# Altium schematic symbol library Transformer.SchLib: 117 symbols
Pins are listed as number, name and electrical type; pins without a type are passive.

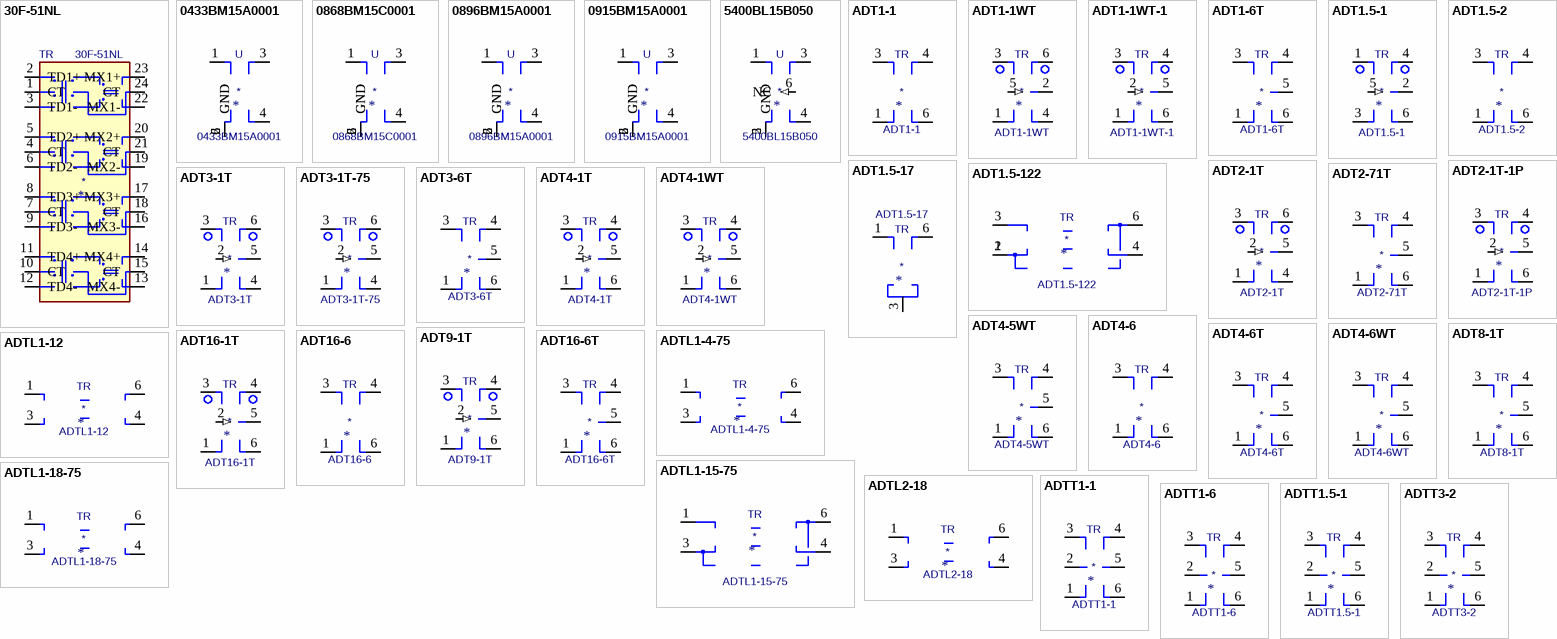
[diagram p0: symbols 30F-51NL to ADTT3-2]

## 30F-51NL
designator *  value 30F-51NL  Reference: TR
1CT:1CT 10/100/1000 Base-T Ethernet Transformer, SMD-24; ki_keywords: gigabit RJ45 transformer ethernet lan; ki_fp_filters: Transformer*Ethernet*YDS*30F?51NL*; Footprint: Transformer_SMD:Transformer_Ethernet_YDS_30F-51NL_SO-24_7.1x15.1mm; Datasheet: https://datasheet.lcsc.com/lcsc/1811051610_Shanghai-YDS-Tech-30F-51NL_C123168.pdf; Description_: 1CT:1CT 10/100/1000 Base-T Ethernet Transformer, SMD-24
pins: 1 CT, 2 TD1+, 3 TD1-, 4 CT, 5 TD2+, 6 TD2-, 7 CT, 8 TD3+, 9 TD3-, 10 CT, 11 TD4+, 12 TD4-, 13 MX4-, 14 MX4+, 15 CT, 16 MX3-, 17 MX3+, 18 CT, 19 MX2-, 20 MX2+, 21 CT, 22 MX1-, 23 MX1+, 24 CT

## 0433BM15A0001
designator *  value 0433BM15A0001  Reference: U
430-435MHz 1:1 RF Transformer, Unbalanced to Balanced, with integrated DC blocking capacitor; ki_keywords: balun rf transformer; ki_fp_filters: Balun*Johanson*0896BM15A0001*; Footprint: RF_Converter:Balun_Johanson_0896BM15A0001; Datasheet: https://www.johansontechnology.com/datasheets/0433BM15A0001/0433BM15A0001.pdf; Description_: 430-435MHz 1:1 RF Transformer, Unbalanced to Balanced, with integrated DC blocking capacitor
pins: 1, 2 GND (power), 3, 4, 5 GND, 6 GND

## 0868BM15C0001
designator *  value 0868BM15C0001  Reference: U
863-873MHz 1:1 RF Transformer, Unbalanced to Balanced, with integrated DC blocking capacitor; ki_keywords: balun rf transformer; ki_fp_filters: Balun*Johanson*0896BM15A0001*; Footprint: RF_Converter:Balun_Johanson_0896BM15A0001; Datasheet: https://www.johansontechnology.com/datasheets/0868BM15C0001/0868BM15C0001.pdf; Description_: 863-873MHz 1:1 RF Transformer, Unbalanced to Balanced, with integrated DC blocking capacitor
pins: 1, 2 GND (power), 3, 4, 5 GND, 6 GND

## 0896BM15A0001
designator *  value 0896BM15A0001  Reference: U
863-928MHz 1:1 RF Transformer, Unbalanced to Balanced; ki_keywords: balun rf transformer; ki_fp_filters: Balun*Johanson*0896BM15A0001*; Footprint: RF_Converter:Balun_Johanson_0896BM15A0001; Datasheet: https://www.johansontechnology.com/datasheets/0896BM15A0001/0896BM15A0001.pdf; Description_: 863-928MHz 1:1 RF Transformer, Unbalanced to Balanced
pins: 1, 2 GND (power), 3, 4, 5 GND, 6 GND

## 0915BM15A0001
designator *  value 0915BM15A0001  Reference: U
902-928MHz 1:1 RF Transformer, Unbalanced to Balanced, with integrated DC blocking capacitor; ki_keywords: balun rf transformer; ki_fp_filters: Balun*Johanson*0896BM15A0001*; Footprint: RF_Converter:Balun_Johanson_0896BM15A0001; Datasheet: https://www.johansontechnology.com/datasheets/0915BM15A0001/0915BM15A0001.pdf; Description_: 902-928MHz 1:1 RF Transformer, Unbalanced to Balanced, with integrated DC blocking capacitor
pins: 1, 2 GND (power), 3, 4, 5 GND, 6 GND

## 5400BL15B050
designator *  value 5400BL15B050  Reference: U
4.9-5.9GHz 1:1 RF Transformer, Unbalanced to Balanced; ki_keywords: balun rf transformer; ki_fp_filters: Balun*Johanson*5400BL15B050E*; Footprint: RF_Converter:Balun_Johanson_5400BL15B050E; Datasheet: https://www.johansontechnology.com/datasheets/5400BL15B050/5400BL15B050.pdf; Description_: 4.9-5.9GHz 1:1 RF Transformer, Unbalanced to Balanced
pins: 1, 2 GND (power), 3, 4, 5 GND, 6 NC (in)

## ADT1-1
designator *  value ADT1-1  Reference: TR
0.15-400MHz 1:1 RF Transformer, Balanced to Balanced, CD542; ki_keywords: Mini-Circuits RF Transformer; ki_fp_filters: Mini?Circuits*CD542*; Footprint: RF_Mini-Circuits:Mini-Circuits_CD542_H2.84mm; Datasheet: https://www.minicircuits.com/pdfs/ADT1-1+.pdf; Description_: 0.15-400MHz 1:1 RF Transformer, Balanced to Balanced, CD542
pins: 1, 3, 4, 6

## ADT1-1WT
designator *  value ADT1-1WT  Reference: TR
0.005-125MHz 1:1 RF Transformer, Unbalanced to Balanced Center Tap, CD542; ki_keywords: Mini-Circuits RF Transformer; ki_fp_filters: Mini?Circuits*CD542*; Footprint: RF_Mini-Circuits:Mini-Circuits_CD542_H2.84mm; Datasheet: https://www.minicircuits.com/pdfs/ADT1-1WT.pdf; Description_: 0.005-125MHz 1:1 RF Transformer, Unbalanced to Balanced Center Tap, CD542
pins: 1, 2, 3, 4, 5 (in), 6

## ADT1-1WT-1
designator *  value ADT1-1WT-1  Reference: TR
1-400MHz 1:1 RF Transformer, Unbalanced to Balanced Center Tap, CD542; ki_keywords: Mini-Circuits RF Transformer; ki_fp_filters: Mini?Circuits*CD542*; Footprint: RF_Mini-Circuits:Mini-Circuits_CD542_H2.84mm; Datasheet: https://www.minicircuits.com/pdfs/ADT1-1WT-1+.pdf; Description_: 1-400MHz 1:1 RF Transformer, Unbalanced to Balanced Center Tap, CD542
pins: 1, 2 (in), 3, 4, 5, 6

## ADT1-6T
designator *  value ADT1-6T  Reference: TR
0.06-160MHz 1:1 RF Transformer, Unbalanced to Balanced Center Tap, CD542; ki_keywords: Mini-Circuits RF Transformer; ki_fp_filters: Mini?Circuits*CD637*; Footprint: RF_Mini-Circuits:Mini-Circuits_CD637_H5.23mm; Datasheet: https://www.minicircuits.com/pdfs/ADT1-6T+.pdf; Description_: 0.06-160MHz 1:1 RF Transformer, Unbalanced to Balanced Center Tap, CD542
pins: 1, 3, 4, 5, 6

## ADT1.5-1
designator *  value ADT1.5-1  Reference: TR
0.5-650MHz 1:1.5 RF Transformer, Unbalanced to Balanced Center Tap, CD542; ki_keywords: Mini-Circuits RF Transformer; ki_fp_filters: Mini?Circuits*CD542*; Footprint: RF_Mini-Circuits:Mini-Circuits_CD542_H2.84mm; Datasheet: https://www.minicircuits.com/pdfs/ADT1.5-1+.pdf; Description_: 0.5-650MHz 1:1.5 RF Transformer, Unbalanced to Balanced Center Tap, CD542
pins: 1, 2, 3, 4, 5 (in), 6

## ADT1.5-2
designator *  value ADT1.5-2  Reference: TR
0.3-225MHz 1:1.5 RF Transformer, Balanced to Balanced, CD636; ki_keywords: Mini-Circuits RF Transformer; ki_fp_filters: Mini?Circuits*CD636*; Footprint: RF_Mini-Circuits:Mini-Circuits_CD636_H4.11mm; Datasheet: https://www.minicircuits.com/pdfs/ADT1.5-2+.pdf; Description_: 0.3-225MHz 1:1.5 RF Transformer, Balanced to Balanced, CD636
pins: 1, 3, 4, 6

## ADT1.5-17
designator *  value ADT1.5-17  Reference: TR
0.5-1700MHz 1:1.5 RF Transformer, Unbalanced to Unbalanced, CD542; ki_keywords: Mini-Circuits RF Transformer; ki_fp_filters: Mini?Circuits*CD542*; Footprint: RF_Mini-Circuits:Mini-Circuits_CD542_H2.84mm; Datasheet: https://www.minicircuits.com/pdfs/ADT1.5-17+.pdf; Description_: 0.5-1700MHz 1:1.5 RF Transformer, Unbalanced to Unbalanced, CD542
pins: 1, 3, 6

## ADT1.5-122
designator *  value ADT1.5-122  Reference: TR
20-1200MHz 1:1.5 RF Transformer, Balanced Transmission Line, CD542; ki_keywords: Mini-Circuits RF Transformer; ki_fp_filters: Mini?Circuits*CD542*; Footprint: RF_Mini-Circuits:Mini-Circuits_CD542_H2.84mm; Datasheet: https://www.minicircuits.com/pdfs/ADT1.5-122+.pdf; Description_: 20-1200MHz 1:1.5 RF Transformer, Balanced Transmission Line, CD542
pins: 1, 2, 3, 4, 6

## ADT2-1T
designator *  value ADT2-1T  Reference: TR
0.40-450MHz 1:2 RF Transformer, Unbalanced to Balanced Center Tap, CD542; ki_keywords: Mini-Circuits RF Transformer; ki_fp_filters: Mini?Circuits*CD542*; Footprint: RF_Mini-Circuits:Mini-Circuits_CD542_H2.84mm; Datasheet: https://www.minicircuits.com/pdfs/ADT2-1T+.pdf; Description_: 0.40-450MHz 1:2 RF Transformer, Unbalanced to Balanced Center Tap, CD542
pins: 1, 2 (in), 3, 4, 5, 6

## ADT2-1T-1P
designator *  value ADT2-1T-1P  Reference: TR
8-600MHz 1:2 RF Transformer, Unbalanced to Balanced Center Tap, CD542; ki_keywords: Mini-Circuits RF Transformer; ki_fp_filters: Mini?Circuits*CD542*; Footprint: RF_Mini-Circuits:Mini-Circuits_CD542_H2.84mm; Datasheet: https://www.minicircuits.com/pdfs/ADT2-1T-1P+.pdf; Description_: 8-600MHz 1:2 RF Transformer, Unbalanced to Balanced Center Tap, CD542
pins: 1, 2 (in), 3, 4, 5, 6

## ADT2-71T
designator *  value ADT2-71T  Reference: TR
0.40-500MHz 1:2 RF Transformer, Unbalanced to Balanced Center Tap, CD542; ki_keywords: Mini-Circuits RF Transformer; ki_fp_filters: Mini?Circuits*CD637*; Footprint: RF_Mini-Circuits:Mini-Circuits_CD637_H5.23mm; Datasheet: https://www.minicircuits.com/pdfs/ADT2-71T+.pdf; Description_: 0.40-500MHz 1:2 RF Transformer, Unbalanced to Balanced Center Tap, CD542
pins: 1, 3, 4, 5, 6

## ADT3-1T
designator *  value ADT3-1T  Reference: TR
1-500MHz 1:3 RF Transformer, Unbalanced to Balanced Center Tap, CD542; ki_keywords: Mini-Circuits RF Transformer; ki_fp_filters: Mini?Circuits*CD542*; Footprint: RF_Mini-Circuits:Mini-Circuits_CD542_H2.84mm; Datasheet: https://www.minicircuits.com/pdfs/ADT3-1T+.pdf; Description_: 1-500MHz 1:3 RF Transformer, Unbalanced to Balanced Center Tap, CD542
pins: 1, 2 (in), 3, 4, 5, 6

## ADT3-1T-75
designator *  value ADT3-1T-75  Reference: TR
1-500MHz 1:3 RF Transformer, Unbalanced to Balanced Center Tap, CD542; ki_keywords: Mini-Circuits RF Transformer; ki_fp_filters: Mini?Circuits*CD542*; Footprint: RF_Mini-Circuits:Mini-Circuits_CD542_H2.84mm; Datasheet: https://www.minicircuits.com/pdfs/ADT3-1T-75+.pdf; Description_: 1-500MHz 1:3 RF Transformer, Unbalanced to Balanced Center Tap, CD542
pins: 1, 2 (in), 3, 4, 5, 6

## ADT3-6T
designator *  value ADT3-6T  Reference: TR
1-600MHz 1:3 RF Transformer, Unbalanced to Balanced Center Tap, CD636; ki_keywords: Mini-Circuits RF Transformer; ki_fp_filters: Mini?Circuits*CD636*; Footprint: RF_Mini-Circuits:Mini-Circuits_CD636_H4.11mm; Datasheet: https://www.minicircuits.com/pdfs/ADT3-6T+.pdf; Description_: 1-600MHz 1:3 RF Transformer, Unbalanced to Balanced Center Tap, CD636
pins: 1, 3, 4, 5, 6

## ADT4-1T
designator *  value ADT4-1T  Reference: TR
9-625MHz 1:4 RF Transformer, Unbalanced to Balanced Center Tap, CD542; ki_keywords: Mini-Circuits RF Transformer; ki_fp_filters: Mini?Circuits*CD542*; Footprint: RF_Mini-Circuits:Mini-Circuits_CD542_H2.84mm; Datasheet: https://www.minicircuits.com/pdfs/ADT4-1T+.pdf; Description_: 9-625MHz 1:4 RF Transformer, Unbalanced to Balanced Center Tap, CD542
pins: 1, 2 (in), 3, 4, 5, 6

## ADT4-1WT
designator *  value ADT4-1WT  Reference: TR
2-775MHz 1:4 RF Transformer, Unbalanced to Balanced Center Tap, CD542; ki_keywords: Mini-Circuits RF Transformer; ki_fp_filters: Mini?Circuits*CD542*; Footprint: RF_Mini-Circuits:Mini-Circuits_CD542_H2.84mm; Datasheet: https://www.minicircuits.com/pdfs/ADT4-1WT+.pdf; Description_: 2-775MHz 1:4 RF Transformer, Unbalanced to Balanced Center Tap, CD542
pins: 1, 2 (in), 3, 4, 5, 6

## ADT4-5WT
designator *  value ADT4-5WT  Reference: TR
1-650MHz 1:4 RF Transformer, Unbalanced to Balanced Center Tap, CD637; ki_keywords: Mini-Circuits RF Transformer; ki_fp_filters: Mini?Circuits*CD637*; Footprint: RF_Mini-Circuits:Mini-Circuits_CD637_H5.23mm; Datasheet: https://www.minicircuits.com/pdfs/ADT4-5WT+.pdf; Description_: 1-650MHz 1:4 RF Transformer, Unbalanced to Balanced Center Tap, CD637
pins: 1, 3, 4, 5, 6

## ADT4-6
designator *  value ADT4-6  Reference: TR
0.07-250MHz 1:4 RF Transformer, Balanced to Balanced, CD542; ki_keywords: Mini-Circuits RF Transformer; ki_fp_filters: Mini?Circuits*CD637*; Footprint: RF_Mini-Circuits:Mini-Circuits_CD637_H5.23mm; Datasheet: https://www.minicircuits.com/pdfs/ADT4-6+.pdf; Description_: 0.07-250MHz 1:4 RF Transformer, Balanced to Balanced, CD542
pins: 1, 3, 4, 6

## ADT4-6T
designator *  value ADT4-6T  Reference: TR
1.5-70MHz 1:4 RF Transformer, Unbalanced to Balanced Center Tap, CD637; ki_keywords: Mini-Circuits RF Transformer; ki_fp_filters: Mini?Circuits*CD637*; Footprint: RF_Mini-Circuits:Mini-Circuits_CD637_H5.23mm; Datasheet: https://www.minicircuits.com/pdfs/ADT4-6T+.pdf; Description_: 1.5-70MHz 1:4 RF Transformer, Unbalanced to Balanced Center Tap, CD637
pins: 1, 3, 4, 5, 6

## ADT4-6WT
designator *  value ADT4-6WT  Reference: TR
2-70MHz 1:4 RF Transformer, Unbalanced to Balanced Center Tap, CD637; ki_keywords: Mini-Circuits RF Transformer; ki_fp_filters: Mini?Circuits*CD636*; Footprint: RF_Mini-Circuits:Mini-Circuits_CD636_H4.11mm; Datasheet: https://www.minicircuits.com/pdfs/ADT4-6WT+.pdf; Description_: 2-70MHz 1:4 RF Transformer, Unbalanced to Balanced Center Tap, CD637
pins: 1, 3, 4, 5, 6

## ADT8-1T
designator *  value ADT8-1T  Reference: TR
8-775MHz 1:8 RF Transformer, Unbalanced to Balanced Center Tap, CD637; ki_keywords: Mini-Circuits RF Transformer; ki_fp_filters: Mini?Circuits*CD637*; Footprint: RF_Mini-Circuits:Mini-Circuits_CD637_H5.23mm; Datasheet: https://www.minicircuits.com/pdfs/ADT8-1T+.pdf; Description_: 8-775MHz 1:8 RF Transformer, Unbalanced to Balanced Center Tap, CD637
pins: 1, 3, 4, 5, 6

## ADT9-1T
designator *  value ADT9-1T  Reference: TR
1-250MHz 1:9 RF Transformer, Unbalanced to Balanced Center Tap, CD542; ki_keywords: Mini-Circuits RF Transformer; ki_fp_filters: Mini?Circuits*CD542*; Footprint: RF_Mini-Circuits:Mini-Circuits_CD542_H2.84mm; Datasheet: https://www.minicircuits.com/pdfs/ADT9-1T+.pdf; Description_: 1-250MHz 1:9 RF Transformer, Unbalanced to Balanced Center Tap, CD542
pins: 1, 2 (in), 3, 4, 5, 6

## ADT16-1T
designator *  value ADT16-1T  Reference: TR
1.5-160MHz 1:16 RF Transformer, Unbalanced to Balanced Center Tap, CD542; ki_keywords: Mini-Circuits RF Transformer; ki_fp_filters: Mini?Circuits*CD542*; Footprint: RF_Mini-Circuits:Mini-Circuits_CD542_H2.84mm; Datasheet: https://www.minicircuits.com/pdfs/ADT16-1T+.pdf; Description_: 1.5-160MHz 1:16 RF Transformer, Unbalanced to Balanced Center Tap, CD542
pins: 1, 2 (in), 3, 4, 5, 6

## ADT16-6
designator *  value ADT16-6  Reference: TR
0.25-105MHz 1:16 RF Transformer, Balanced to Balanced, CD636; ki_keywords: Mini-Circuits RF Transformer; ki_fp_filters: Mini?Circuits*CD636*; Footprint: RF_Mini-Circuits:Mini-Circuits_CD636_H4.11mm; Datasheet: https://www.minicircuits.com/pdfs/ADT16-6+.pdf; Description_: 0.25-105MHz 1:16 RF Transformer, Balanced to Balanced, CD636
pins: 1, 3, 4, 6

## ADT16-6T
designator *  value ADT16-6T  Reference: TR
0.10-400MHz 1:16 RF Transformer, Unbalanced to Balanced Center Tap, CD542; ki_keywords: Mini-Circuits RF Transformer; ki_fp_filters: Mini?Circuits*CD637*; Footprint: RF_Mini-Circuits:Mini-Circuits_CD637_H5.23mm; Datasheet: https://www.minicircuits.com/pdfs/ADT16-6T+.pdf; Description_: 0.10-400MHz 1:16 RF Transformer, Unbalanced to Balanced Center Tap, CD542
pins: 1, 3, 4, 5, 6

## ADTL1-4-75
designator *  value ADTL1-4-75  Reference: TR
0.5-1000MHz 1:1 RF Transformer, Balanced Transmission Line, CD542; ki_keywords: Mini-Circuits RF Transformer; ki_fp_filters: Mini?Circuits*CD542*; Footprint: RF_Mini-Circuits:Mini-Circuits_CD542_H2.84mm; Datasheet: https://www.minicircuits.com/pdfs/ADTL1-4-75+.pdf; Description_: 0.5-1000MHz 1:1 RF Transformer, Balanced Transmission Line, CD542
pins: 1, 3, 4, 6

## ADTL1-12
designator *  value ADTL1-12  Reference: TR
20-1200MHz 1:1 RF Transformer, Balanced Transmission Line, CD542; ki_keywords: Mini-Circuits RF Transformer; ki_fp_filters: Mini?Circuits*CD542*; Footprint: RF_Mini-Circuits:Mini-Circuits_CD542_H2.84mm; Datasheet: https://www.minicircuits.com/pdfs/ADTL1-12+.pdf; Description_: 20-1200MHz 1:1 RF Transformer, Balanced Transmission Line, CD542
pins: 1, 3, 4, 6

## ADTL1-15-75
designator *  value ADTL1-15-75  Reference: TR
10-1500MHz 1:1 RF Transformer, Balanced Transmission Line, CD542; ki_keywords: Mini-Circuits RF Transformer; ki_fp_filters: Mini?Circuits*CD542*; Footprint: RF_Mini-Circuits:Mini-Circuits_CD542_H2.84mm; Datasheet: https://www.minicircuits.com/pdfs/ADTL1-15-75+.pdf; Description_: 10-1500MHz 1:1 RF Transformer, Balanced Transmission Line, CD542
pins: 1, 3, 4, 6

## ADTL1-18-75
designator *  value ADTL1-18-75  Reference: TR
5-1800MHz 1:1 RF Transformer, Balanced Transmission Line, CD542; ki_keywords: Mini-Circuits RF Transformer; ki_fp_filters: Mini?Circuits*CD542*; Footprint: RF_Mini-Circuits:Mini-Circuits_CD542_H2.84mm; Datasheet: https://www.minicircuits.com/pdfs/ADTL1-18-75+.pdf; Description_: 5-1800MHz 1:1 RF Transformer, Balanced Transmission Line, CD542
pins: 1, 3, 4, 6

## ADTL2-18
designator *  value ADTL2-18  Reference: TR
30-1800MHz 1:2 RF Transformer, Balanced Transmission Line, CD542; ki_keywords: Mini-Circuits RF Transformer; ki_fp_filters: Mini?Circuits*CD542*; Footprint: RF_Mini-Circuits:Mini-Circuits_CD542_H2.84mm; Datasheet: https://www.minicircuits.com/pdfs/ADTL2-18+.pdf; Description_: 30-1800MHz 1:2 RF Transformer, Balanced Transmission Line, CD542
pins: 1, 3, 4, 6

## ADTT1-1
designator *  value ADTT1-1  Reference: TR
0.3-300MHz 1:1 RF Transformer, Unbalanced to Balanced Center Tap at Primary/Secondary, CD542; ki_keywords: Mini-Circuits RF Transformer; ki_fp_filters: Mini?Circuits*CD542*; Footprint: RF_Mini-Circuits:Mini-Circuits_CD542_H2.84mm; Datasheet: https://www.minicircuits.com/pdfs/ADTT1-1+.pdf; Description_: 0.3-300MHz 1:1 RF Transformer, Unbalanced to Balanced Center Tap at Primary/Secondary, CD542
pins: 1, 2, 3, 4, 5, 6

## ADTT1-6
designator *  value ADTT1-6  Reference: TR
0.015-100MHz 1:1 RF Transformer, Unbalanced to Balanced Center Tap at Primary/Secondary, CD637; ki_keywords: Mini-Circuits RF Transformer; ki_fp_filters: Mini?Circuits*CD637*; Footprint: RF_Mini-Circuits:Mini-Circuits_CD637_H5.23mm; Datasheet: https://www.minicircuits.com/pdfs/ADTT1-6+.pdf; Description_: 0.015-100MHz 1:1 RF Transformer, Unbalanced to Balanced Center Tap at Primary/Secondary, CD637
pins: 1, 2, 3, 4, 5, 6

## ADTT1.5-1
designator *  value ADTT1.5-1  Reference: TR
0.25-300MHz 1:1.5 RF Transformer, Unbalanced to Balanced Center Tap at Primary/Secondary, CD636; ki_keywords: Mini-Circuits RF Transformer; ki_fp_filters: Mini?Circuits*CD636*; Footprint: RF_Mini-Circuits:Mini-Circuits_CD636_H4.11mm; Datasheet: https://www.minicircuits.com/pdfs/ADTT1.5-1+.pdf; Description_: 0.25-300MHz 1:1.5 RF Transformer, Unbalanced to Balanced Center Tap at Primary/Secondary, CD636
pins: 1, 2, 3, 4, 5, 6

## ADTT3-2
designator *  value ADTT3-2  Reference: TR
0.2-210MHz 1:3 RF Transformer, Unbalanced to Balanced Center Tap at Primary/Secondary, CD636; ki_keywords: Mini-Circuits RF Transformer; ki_fp_filters: Mini?Circuits*CD636*; Footprint: RF_Mini-Circuits:Mini-Circuits_CD636_H4.11mm; Datasheet: https://www.minicircuits.com/pdfs/ADTT3-2+.pdf; Description_: 0.2-210MHz 1:3 RF Transformer, Unbalanced to Balanced Center Tap at Primary/Secondary, CD636
pins: 1, 2, 3, 4, 5, 6

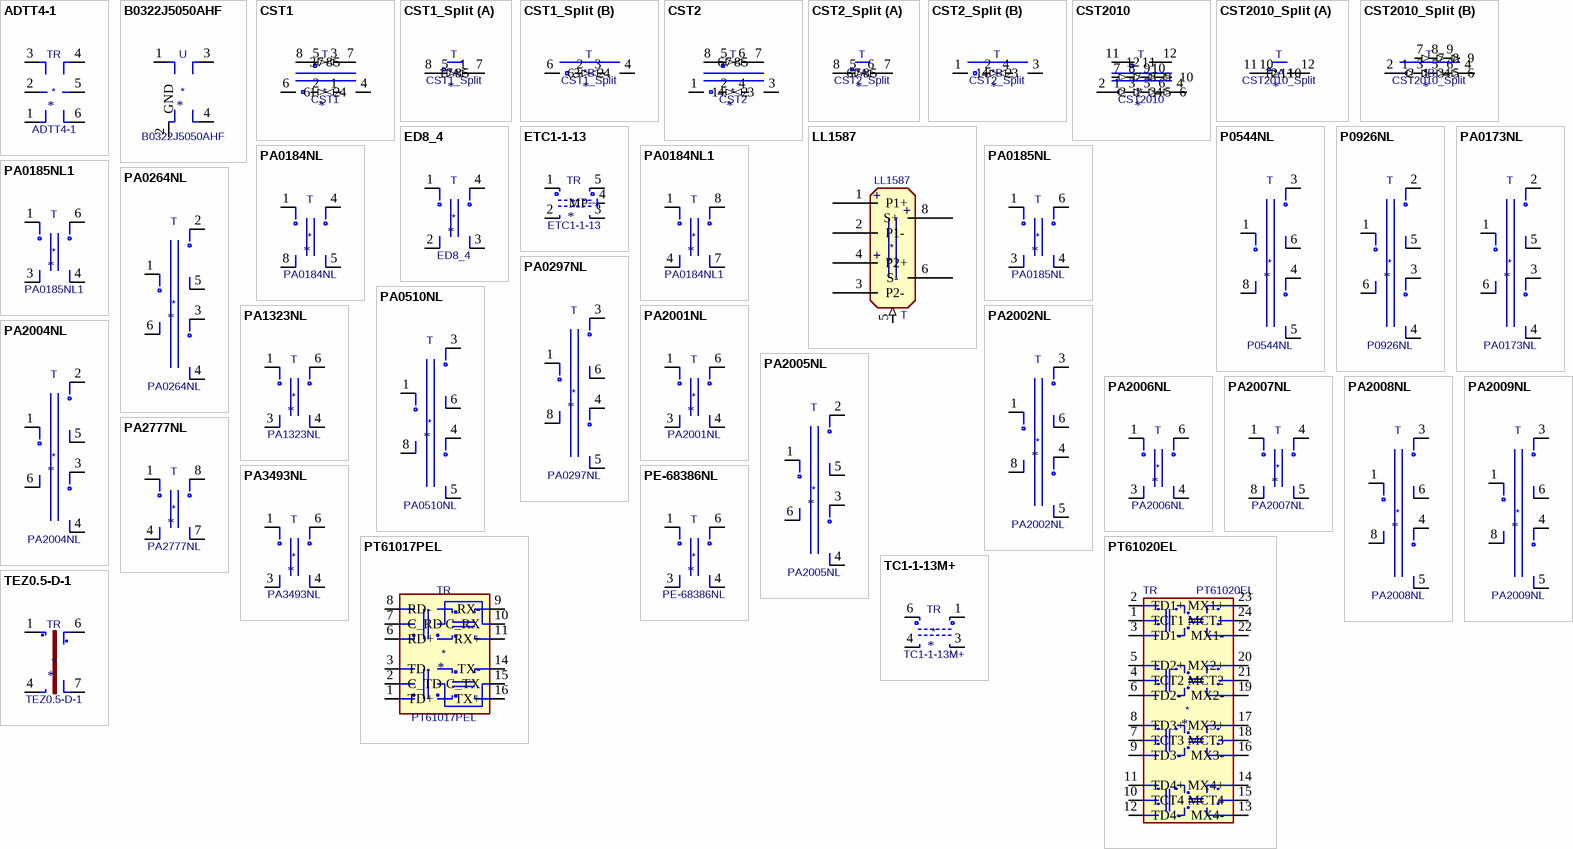
[diagram p1: symbols ADTT4-1 to TEZ0.5-D-1]

## ADTT4-1
designator *  value ADTT4-1  Reference: TR
0.2-120MHz 1:4 RF Transformer, Unbalanced to Balanced Center Tap at Primary/Secondary, CD636; ki_keywords: Mini-Circuits RF Transformer; ki_fp_filters: Mini?Circuits*CD636*; Footprint: RF_Mini-Circuits:Mini-Circuits_CD636_H4.11mm; Datasheet: https://www.minicircuits.com/pdfs/ADTT4-1+.pdf; Description_: 0.2-120MHz 1:4 RF Transformer, Unbalanced to Balanced Center Tap at Primary/Secondary, CD636
pins: 1, 2, 3, 4, 5, 6

## B0322J5050AHF
designator *  value B0322J5050AHF  Reference: U
300MHz to 2200MHz 1:1 RF Transformer, 50 ohm, Unbalanced to Balanced; ki_keywords: balun rf transformer; ki_fp_filters: Anaren*0805*2012Metric*; Footprint: RF_Converter:Anaren_0805_2012Metric-6; Datasheet: https://cdn.ttm.com/repository/products/wireless-xinger/balun-transformers/B0322J5050AHF/B0322J5050AHF.pdf; Description_: 300MHz to 2200MHz 1:1 RF Transformer, 50 ohm, Unbalanced to Balanced
pins: 1, 2 GND (power), 3, 4

## CST1
designator *  value CST1  Reference: T
Coilcraft Current Sense Transformer, SMD, 20A, 1:20 to 1:125; ki_fp_filters: Transformer*Coilcraft*CST1*; Footprint: Transformer_SMD:Transformer_Coilcraft_CST1; Datasheet: https://www.coilcraft.com/pdfs/cst.pdf; Description_: Coilcraft Current Sense Transformer, SMD, 20A, 1:20 to 1:125; ki_keywords: current sense transformer
pins: 1 (in), 2 (in), 3 (in), 4, 5 (in), 6, 7, 8

## CST1_Split
designator *  value CST1_Split  Reference: T
Coilcraft Current Sense Transformer, SMD, 20A, 1:20 to 1:125; ki_fp_filters: Transformer*Coilcraft*CST1*; Footprint: Transformer_SMD:Transformer_Coilcraft_CST1; Datasheet: https://www.coilcraft.com/pdfs/cst.pdf; Description_: Coilcraft Current Sense Transformer, SMD, 20A, 1:20 to 1:125; ki_keywords: current sense transformer
part A pins: 1 (in), 5 (in), 7, 8
part B pins: 2 (in), 3 (in), 4, 6

## CST2
designator *  value CST2  Reference: T
Coilcraft Current Sense Transformer, SMD, 20A, 1:20 to 1:125; ki_fp_filters: Transformer*Coilcraft*CST2*; Footprint: Transformer_SMD:Transformer_Coilcraft_CST2; Datasheet: https://www.coilcraft.com/pdfs/cst.pdf; Description_: Coilcraft Current Sense Transformer, SMD, 20A, 1:20 to 1:125; ki_keywords: current sense transformer
pins: 1, 2 (in), 3, 4 (in), 5 (in), 6 (in), 7, 8

## CST2_Split
designator *  value CST2_Split  Reference: T
Coilcraft Current Sense Transformer, SMD, 20A, 1:20 to 1:125; ki_fp_filters: Transformer*Coilcraft*CST2*; Footprint: Transformer_SMD:Transformer_Coilcraft_CST2; Datasheet: https://www.coilcraft.com/pdfs/cst.pdf; Description_: Coilcraft Current Sense Transformer, SMD, 20A, 1:20 to 1:125; ki_keywords: current sense transformer
part A pins: 5 (in), 6 (in), 7, 8
part B pins: 1, 2 (in), 3, 4 (in)

## CST2010
designator *  value CST2010  Reference: T
Coilcraft Current Sense Transformer, SMD, 40A, 1:20 to 1:200; ki_fp_filters: Transformer*Coilcraft*CST2010*; Footprint: Transformer_SMD:Transformer_Coilcraft_CST2010; Datasheet: https://www.coilcraft.com/pdfs/cst2010.pdf; Description_: Coilcraft Current Sense Transformer, SMD, 40A, 1:20 to 1:200; ki_keywords: current sense transformer
pins: 1 (in), 2, 3 (in), 4, 5 (in), 6 (in), 7 (in), 8 (in), 9 (in), 10 (in), 11, 12

## CST2010_Split
designator *  value CST2010_Split  Reference: T
Coilcraft Current Sense Transformer, SMD, 40A, 1:20 to 1:200; ki_fp_filters: Transformer*Coilcraft*CST2010*; Footprint: Transformer_SMD:Transformer_Coilcraft_CST2010; Datasheet: https://www.coilcraft.com/pdfs/cst2010.pdf; Description_: Coilcraft Current Sense Transformer, SMD, 40A, 1:20 to 1:200; ki_keywords: current sense transformer
part A pins: 10 (in), 11, 12
part B pins: 1 (in), 2, 3 (in), 4, 5 (in), 6 (in), 7 (in), 8 (in), 9 (in)

## ED8_4
designator *  value ED8_4  Reference: T
600:600 Impedance Permalloy Core 1:1 Isolated Audio Transformer; ki_keywords: ED8 4-lead body 10.5x8mm body pitch 5mm height 5mm; ki_fp_filters: Transformer*ED8*4*Lead*10.5x8mm*P5mm*; Footprint: Transformer_SMD:Transformer_ED8_4-Lead_10.5x8mm_P5mm; Datasheet: https://gitlab.com/kicad/libraries/kicad-footprints/-/merge_requests/3626; Description_: 600:600 Impedance Permalloy Core 1:1 Isolated Audio Transformer
pins: 1, 2, 3, 4

## ETC1-1-13
designator *  value ETC1-1-13  Reference: TR
4.5-4000MHz 1:1 RF Transformer, Balanced Transmission Line, SM-22; ki_keywords: MACOM RF Transformer; ki_fp_filters: Transformer*MACOM*SM?22*; Footprint: Transformer_SMD:Transformer_MACOM_SM-22; Datasheet: https://cdn.macom.com/datasheets/ETC1-1-13.pdf; Description_: 4.5-4000MHz 1:1 RF Transformer, Balanced Transmission Line, SM-22
pins: 1, 2, 3, 4 MP, 5
text: Mounting

## LL1587
designator *  value LL1587  Reference: T
Lundahl Transformers, Microphone Transformer; ki_fp_filters: Transformer*Microphone*Lundahl*LL1587*; Footprint: Transformer_THT:Transformer_Microphone_Lundahl_LL1587; Datasheet: http://www.lundahl.se/wp-content/uploads/datasheets/1587.pdf; Description_: Lundahl Transformers, Microphone Transformer; ki_keywords: microphone transformer
pins: 1 P1+, 2 P1-, 3 P2-, 4 P2+, 5 (in), 6 S-, 8 S+
text: +

## P0544NL
designator *  value P0544NL  Reference: T
SMT Gate Drive Transformer, 1:1:1; ki_keywords: pulse; ki_fp_filters: Pulse*PA2002NL*PA2008NL*PA2009NL*; Footprint: Transformer_SMD:Pulse_PA2002NL-PA2008NL-PA2009NL; Datasheet: https://productfinder.pulseeng.com/products/datasheets/SPM2007_61.pdf; Description_: SMT Gate Drive Transformer, 1:1:1
pins: 1, 3, 4, 5, 6, 8

## P0926NL
designator *  value P0926NL  Reference: T
SMT Gate Drive Transformer, 1:1:1; ki_keywords: pulse; ki_fp_filters: Pulse*P0926NL*; Footprint: Transformer_SMD:Pulse_P0926NL; Datasheet: https://productfinder.pulseeng.com/products/datasheets/SPM2007_61.pdf; Description_: SMT Gate Drive Transformer, 1:1:1
pins: 1, 2, 3, 4, 5, 6

## PA0173NL
designator *  value PA0173NL  Reference: T
SMT Gate Drive Transformer, 1:1:1; ki_keywords: pulse; ki_fp_filters: Pulse*PA2005NL*; Footprint: Transformer_SMD:Pulse_PA2005NL; Datasheet: https://productfinder.pulseeng.com/products/datasheets/SPM2007_61.pdf; Description_: SMT Gate Drive Transformer, 1:1:1
pins: 1, 2, 3, 4, 5, 6

## PA0184NL
designator *  value PA0184NL  Reference: T
SMT Gate Drive Transformer, 1:1; ki_keywords: pulse; ki_fp_filters: Pulse*PA2007NL*; Footprint: Transformer_SMD:Pulse_PA2007NL; Datasheet: https://productfinder.pulseeng.com/products/datasheets/SPM2007_61.pdf; Description_: SMT Gate Drive Transformer, 1:1
pins: 1, 4, 5, 8

## PA0184NL1
designator *  value PA0184NL1  Reference: T
SMT Gate Drive Transformer, 1:1; ki_keywords: pulse; ki_fp_filters: Pulse*PA2777NL*; Footprint: Transformer_SMD:Pulse_PA2777NL; Description_: SMT Gate Drive Transformer, 1:1
pins: 1, 4, 7, 8

## PA0185NL
designator *  value PA0185NL  Reference: T
SMT Gate Drive Transformer, 1:1; ki_keywords: pulse; ki_fp_filters: Pulse*PA2006NL*; Footprint: Transformer_SMD:Pulse_PA2006NL; Datasheet: https://productfinder.pulseeng.com/products/datasheets/SPM2007_61.pdf; Description_: SMT Gate Drive Transformer, 1:1
pins: 1, 3, 4, 6

## PA0185NL1
designator *  value PA0185NL1  Reference: T
SMT Gate Drive Transformer, 1.25:1; ki_keywords: pulse; ki_fp_filters: Pulse*PA3493NL*; Footprint: Transformer_SMD:Pulse_PA3493NL; Description_: SMT Gate Drive Transformer, 1.25:1
pins: 1, 3, 4, 6

## PA0264NL
designator *  value PA0264NL  Reference: T
SMT Gate Drive Transformer, 1:1:1; ki_keywords: pulse; ki_fp_filters: Pulse*PA2004NL*; Footprint: Transformer_SMD:Pulse_PA2004NL; Datasheet: https://productfinder.pulseeng.com/products/datasheets/SPM2007_61.pdf; Description_: SMT Gate Drive Transformer, 1:1:1
pins: 1, 2, 3, 4, 5, 6

## PA0297NL
designator *  value PA0297NL  Reference: T
SMT Gate Drive Transformer, 2:1:1; ki_keywords: pulse; ki_fp_filters: Pulse*PA2002NL*PA2008NL*PA2009NL*; Footprint: Transformer_SMD:Pulse_PA2002NL-PA2008NL-PA2009NL; Datasheet: https://productfinder.pulseeng.com/products/datasheets/SPM2007_61.pdf; Description_: SMT Gate Drive Transformer, 2:1:1
pins: 1, 3, 4, 5, 6, 8

## PA0510NL
designator *  value PA0510NL  Reference: T
SMT Gate Drive Transformer, 2.5:1:1; ki_keywords: pulse; ki_fp_filters: Pulse*PA2002NL*PA2008NL*PA2009NL*; Footprint: Transformer_SMD:Pulse_PA2002NL-PA2008NL-PA2009NL; Datasheet: https://productfinder.pulseeng.com/products/datasheets/SPM2007_61.pdf; Description_: SMT Gate Drive Transformer, 2.5:1:1
pins: 1, 3, 4, 5, 6, 8

## PA1323NL
designator *  value PA1323NL  Reference: T
SMT Gate Drive Transformer, 1:1; ki_keywords: pulse; ki_fp_filters: Pulse*PA1323NL*; Footprint: Transformer_SMD:Pulse_PA1323NL; Datasheet: https://productfinder.pulseeng.com/products/datasheets/SPM2007_61.pdf; Description_: SMT Gate Drive Transformer, 1:1
pins: 1, 3, 4, 6

## PA2001NL
designator *  value PA2001NL  Reference: T
SMT Gate Drive Transformer, 1:1; ki_keywords: pulse; ki_fp_filters: Pulse*PA2001NL*; Footprint: Transformer_SMD:Pulse_PA2001NL; Datasheet: https://productfinder.pulseeng.com/products/datasheets/P663.pdf; Description_: SMT Gate Drive Transformer, 1:1
pins: 1, 3, 4, 6

## PA2002NL
designator *  value PA2002NL  Reference: T
SMT Gate Drive Transformer, 1:1:1; ki_keywords: pulse; ki_fp_filters: Pulse*PA2002NL*PA2008NL*PA2009NL*; Footprint: Transformer_SMD:Pulse_PA2002NL-PA2008NL-PA2009NL; Datasheet: https://productfinder.pulseeng.com/products/datasheets/P663.pdf; Description_: SMT Gate Drive Transformer, 1:1:1
pins: 1, 3, 4, 5, 6, 8

## PA2004NL
designator *  value PA2004NL  Reference: T
SMT Gate Drive Transformer, 1:1:1; ki_keywords: pulse; ki_fp_filters: Pulse*PA2004NL*; Footprint: Transformer_SMD:Pulse_PA2004NL; Datasheet: https://productfinder.pulseeng.com/products/datasheets/P663.pdf; Description_: SMT Gate Drive Transformer, 1:1:1
pins: 1, 2, 3, 4, 5, 6

## PA2005NL
designator *  value PA2005NL  Reference: T
SMT Gate Drive Transformer, 1:1:1; ki_keywords: pulse; ki_fp_filters: Pulse*PA2005NL*; Footprint: Transformer_SMD:Pulse_PA2005NL; Datasheet: https://productfinder.pulseeng.com/products/datasheets/P663.pdf; Description_: SMT Gate Drive Transformer, 1:1:1
pins: 1, 2, 3, 4, 5, 6

## PA2006NL
designator *  value PA2006NL  Reference: T
SMT Gate Drive Transformer, 1:1; ki_keywords: pulse; ki_fp_filters: Pulse*PA2006NL*; Footprint: Transformer_SMD:Pulse_PA2006NL; Datasheet: https://productfinder.pulseeng.com/products/datasheets/P663.pdf; Description_: SMT Gate Drive Transformer, 1:1
pins: 1, 3, 4, 6

## PA2007NL
designator *  value PA2007NL  Reference: T
SMT Gate Drive Transformer, 1:1; ki_keywords: pulse; ki_fp_filters: Pulse*PA2007NL*; Footprint: Transformer_SMD:Pulse_PA2007NL; Datasheet: https://productfinder.pulseeng.com/products/datasheets/P663.pdf; Description_: SMT Gate Drive Transformer, 1:1
pins: 1, 4, 5, 8

## PA2008NL
designator *  value PA2008NL  Reference: T
SMT Gate Drive Transformer, 2:1:1; ki_keywords: pulse; ki_fp_filters: Pulse*PA2002NL*PA2008NL*PA2009NL*; Footprint: Transformer_SMD:Pulse_PA2002NL-PA2008NL-PA2009NL; Datasheet: https://productfinder.pulseeng.com/products/datasheets/P663.pdf; Description_: SMT Gate Drive Transformer, 2:1:1
pins: 1, 3, 4, 5, 6, 8

## PA2009NL
designator *  value PA2009NL  Reference: T
SMT Gate Drive Transformer, 2.5:1:1; ki_keywords: pulse; ki_fp_filters: Pulse*PA2002NL*PA2008NL*PA2009NL*; Footprint: Transformer_SMD:Pulse_PA2002NL-PA2008NL-PA2009NL; Datasheet: https://productfinder.pulseeng.com/products/datasheets/P663.pdf; Description_: SMT Gate Drive Transformer, 2.5:1:1
pins: 1, 3, 4, 5, 6, 8

## PA2777NL
designator *  value PA2777NL  Reference: T
SMT Gate Drive Transformer, 1:1; ki_keywords: pulse; ki_fp_filters: Pulse*PA2777NL*; Footprint: Transformer_SMD:Pulse_PA2777NL; Datasheet: https://productfinder.pulseeng.com/products/datasheets/SPM2007_61.pdf; Description_: SMT Gate Drive Transformer, 1:1
pins: 1, 4, 7, 8

## PA3493NL
designator *  value PA3493NL  Reference: T
SMT Gate Drive Transformer, 1.25:1; ki_keywords: pulse; ki_fp_filters: Pulse*PA3493NL*; Footprint: Transformer_SMD:Pulse_PA3493NL; Datasheet: https://productfinder.pulseeng.com/products/datasheets/SPM2007_61.pdf; Description_: SMT Gate Drive Transformer, 1.25:1
pins: 1, 3, 4, 6

## PE-68386NL
designator *  value PE-68386NL  Reference: T
SMT Gate Drive Transformer, 1:1; ki_keywords: pulse; ki_fp_filters: Pulse*PA2001NL*; Footprint: Transformer_SMD:Pulse_PA2001NL; Datasheet: https://productfinder.pulseeng.com/products/datasheets/SPM2007_61.pdf; Description_: SMT Gate Drive Transformer, 1:1
pins: 1, 3, 4, 6

## PT61017PEL
designator *  value PT61017PEL  Reference: TR
Ethernet LAN 10/100 Base-Tx Transformer with Center Taps; ki_keywords: single port ethernet transformer poe center-tap; ki_fp_filters: Transformer*Ethernet*Bourns*PT61017PEL*; Footprint: Transformer_SMD:Transformer_Ethernet_Bourns_PT61017PEL; Datasheet: https://www.bourns.com/docs/Product-Datasheets/PT61017PEL.pdf; Description_: Ethernet LAN 10/100 Base-Tx Transformer with Center Taps
pins: 1 TD+, 2 C_TD, 3 TD-, 6 RD+, 7 C_RD, 8 RD-, 9 RX-, 10 C_RX, 11 RX+, 14 TX-, 15 C_TX, 16 TX+

## PT61020EL
designator *  value PT61020EL  Reference: TR
10/100/1000 Base-T Ethernet Transformer, SMD-24; ki_keywords: Gigabit PoE RJ45 Transformer Ethernet Lan; ki_fp_filters: Transformer*Ethernet*Bourns*PT61020EL*; Footprint: Transformer_SMD:Transformer_Ethernet_Bourns_PT61020EL; Datasheet: https://www.bourns.com/pdfs/PT61020.pdf; Description_: 10/100/1000 Base-T Ethernet Transformer, SMD-24
pins: 1 TCT1, 2 TD1+, 3 TD1-, 4 TCT2, 5 TD2+, 6 TD2-, 7 TCT3, 8 TD3+, 9 TD3-, 10 TCT4, 11 TD4+, 12 TD4-, 13 MX4-, 14 MX4+, 15 MCT4, 16 MX3-, 17 MX3+, 18 MCT3, 19 MX2-, 20 MX2+, 21 MCT2, 22 MX1-, 23 MX1+, 24 MCT1

## TC1-1-13M+
designator *  value TC1-1-13M+  Reference: TR
4.5-3000MHz 1:1 RF Transformer, Balanced Transmission Line, AT224-1A; ki_keywords: Mini-circuits RF Transformer; ki_fp_filters: Transformer*AT224*; Footprint: Transformer_SMD:Transformer_MiniCircuits_AT224-1A; Datasheet: https://www.minicircuits.com/pdfs/TC1-1-13M+.pdf; Description_: 4.5-3000MHz 1:1 RF Transformer, Balanced Transmission Line, AT224-1A
pins: 1, 3, 4, 6

## TEZ0.5-D-1
designator *  value TEZ0.5-D-1  Reference: TR
TEZ0.5/D/x, 0.5VA, Single Secondary, Cast Resin Transformer, PCB; ki_keywords: 0.5VA PCB Transformer Single Secondary; ki_fp_filters: Transformer*Breve*TEZ*22x24*; Footprint: Transformer_THT:Transformer_Breve_TEZ-22x24; Datasheet: http://www.breve.pl/pdf/ANG/TEZ_ang.pdf; Description_: TEZ0.5/D/x, 0.5VA, Single Secondary, Cast Resin Transformer, PCB
pins: 1, 4, 6, 7

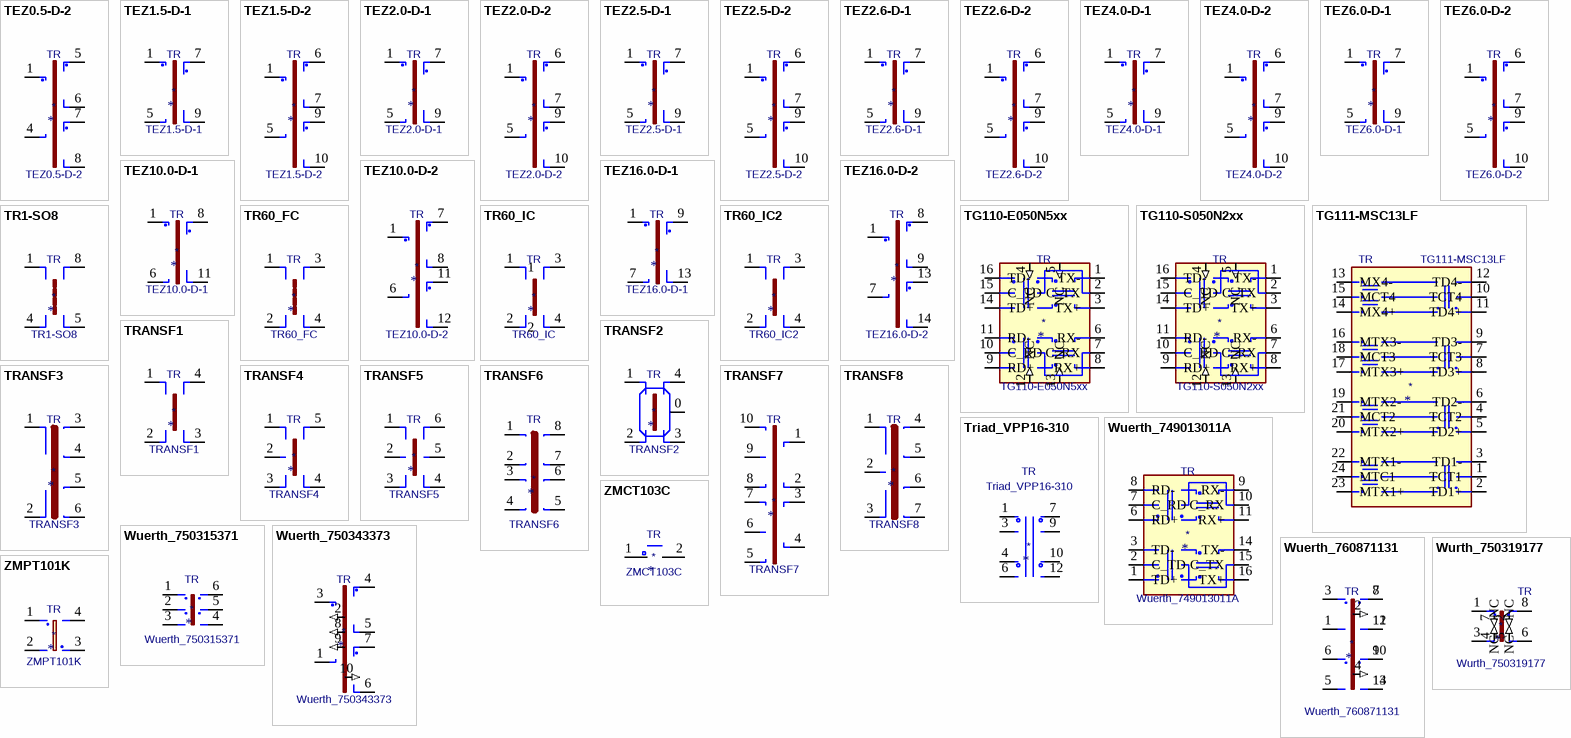
[diagram p2: symbols TEZ0.5-D-2 to ZMPT101K]

## TEZ0.5-D-2
designator *  value TEZ0.5-D-2  Reference: TR
TEZ0.5/D/x-x, 0.5VA, Dual Secondary, Cast Resin Transformer, PCB; ki_keywords: 0.5VA PCB Transformer Dual Secondary; ki_fp_filters: Transformer*Breve*TEZ*22x24*; Footprint: Transformer_THT:Transformer_Breve_TEZ-22x24; Datasheet: http://www.breve.pl/pdf/ANG/TEZ_ang.pdf; Description_: TEZ0.5/D/x-x, 0.5VA, Dual Secondary, Cast Resin Transformer, PCB
pins: 1, 4, 5, 6, 7, 8

## TEZ1.5-D-1
designator *  value TEZ1.5-D-1  Reference: TR
TEZ1.5/D/x, 1.5VA, Single Secondary, Cast Resin Transformer, PCB; ki_keywords: 1.5VA PCB Transformer Single Secondary; ki_fp_filters: Transformer*Breve*TEZ*28x33*; Footprint: Transformer_THT:Transformer_Breve_TEZ-28x33; Datasheet: http://www.breve.pl/pdf/ANG/TEZ_ang.pdf; Description_: TEZ1.5/D/x, 1.5VA, Single Secondary, Cast Resin Transformer, PCB
pins: 1, 5, 7, 9

## TEZ1.5-D-2
designator *  value TEZ1.5-D-2  Reference: TR
TEZ1.5/D/x-x, 1.5VA, Dual Secondary, Cast Resin Transformer, PCB; ki_keywords: 1.5VA PCB Transformer Dual Secondary; ki_fp_filters: Transformer*Breve*TEZ*28x33*; Footprint: Transformer_THT:Transformer_Breve_TEZ-28x33; Datasheet: http://www.breve.pl/pdf/ANG/TEZ_ang.pdf; Description_: TEZ1.5/D/x-x, 1.5VA, Dual Secondary, Cast Resin Transformer, PCB
pins: 1, 5, 6, 7, 9, 10

## TEZ2.0-D-1
designator *  value TEZ2.0-D-1  Reference: TR
TEZ2.0/D/x, 2VA, Single Secondary, Cast Resin Transformer, PCB; ki_keywords: 2VA PCB Transformer Single Secondary; ki_fp_filters: Transformer*Breve*TEZ*28x33*; Footprint: Transformer_THT:Transformer_Breve_TEZ-28x33; Datasheet: http://www.breve.pl/pdf/ANG/TEZ_ang.pdf; Description_: TEZ2.0/D/x, 2VA, Single Secondary, Cast Resin Transformer, PCB
pins: 1, 5, 7, 9

## TEZ2.0-D-2
designator *  value TEZ2.0-D-2  Reference: TR
TEZ2.0/D/x-x, 2VA, Dual Secondary, Cast Resin Transformer, PCB; ki_keywords: 2VA PCB Transformer Dual Secondary; ki_fp_filters: Transformer*Breve*TEZ*28x33*; Footprint: Transformer_THT:Transformer_Breve_TEZ-28x33; Datasheet: http://www.breve.pl/pdf/ANG/TEZ_ang.pdf; Description_: TEZ2.0/D/x-x, 2VA, Dual Secondary, Cast Resin Transformer, PCB
pins: 1, 5, 6, 7, 9, 10

## TEZ2.5-D-1
designator *  value TEZ2.5-D-1  Reference: TR
TEZ2.5/D/x, 2.5VA, Single Secondary, Cast Resin Transformer, PCB; ki_keywords: 2.5VA PCB Transformer Single Secondary; ki_fp_filters: Transformer*Breve*TEZ*28x33*; Footprint: Transformer_THT:Transformer_Breve_TEZ-28x33; Datasheet: http://www.breve.pl/pdf/ANG/TEZ_ang.pdf; Description_: TEZ2.5/D/x, 2.5VA, Single Secondary, Cast Resin Transformer, PCB
pins: 1, 5, 7, 9

## TEZ2.5-D-2
designator *  value TEZ2.5-D-2  Reference: TR
TEZ2.5/D/x-x, 2.5VA, Dual Secondary, Cast Resin Transformer, PCB; ki_keywords: 2.5VA PCB Transformer Dual Secondary; ki_fp_filters: Transformer*Breve*TEZ*28x33*; Footprint: Transformer_THT:Transformer_Breve_TEZ-28x33; Datasheet: http://www.breve.pl/pdf/ANG/TEZ_ang.pdf; Description_: TEZ2.5/D/x-x, 2.5VA, Dual Secondary, Cast Resin Transformer, PCB
pins: 1, 5, 6, 7, 9, 10

## TEZ2.6-D-1
designator *  value TEZ2.6-D-1  Reference: TR
TEZ2.6/D/x, 2.6VA, Single Secondary, Cast Resin Transformer, PCB; ki_keywords: 2.6VA PCB Transformer Single Secondary; ki_fp_filters: Transformer*Breve*TEZ*28x33*; Footprint: Transformer_THT:Transformer_Breve_TEZ-28x33; Datasheet: http://www.breve.pl/pdf/ANG/TEZ_ang.pdf; Description_: TEZ2.6/D/x, 2.6VA, Single Secondary, Cast Resin Transformer, PCB
pins: 1, 5, 7, 9

## TEZ2.6-D-2
designator *  value TEZ2.6-D-2  Reference: TR
TEZ2.6/D/x-x, 2.6VA, Dual Secondary, Cast Resin Transformer, PCB; ki_keywords: 2.6VA PCB Transformer Dual Secondary; ki_fp_filters: Transformer*Breve*TEZ*28x33*; Footprint: Transformer_THT:Transformer_Breve_TEZ-28x33; Datasheet: http://www.breve.pl/pdf/ANG/TEZ_ang.pdf; Description_: TEZ2.6/D/x-x, 2.6VA, Dual Secondary, Cast Resin Transformer, PCB
pins: 1, 5, 6, 7, 9, 10

## TEZ4.0-D-1
designator *  value TEZ4.0-D-1  Reference: TR
TEZ4.0/D/x, 4VA, Single Secondary, Cast Resin Transformer, PCB; ki_keywords: 4VA PCB Transformer Single Secondary; ki_fp_filters: Transformer*Breve*TEZ*35x42*; Footprint: Transformer_THT:Transformer_Breve_TEZ-35x42; Datasheet: http://www.breve.pl/pdf/ANG/TEZ_ang.pdf; Description_: TEZ4.0/D/x, 4VA, Single Secondary, Cast Resin Transformer, PCB
pins: 1, 5, 7, 9

## TEZ4.0-D-2
designator *  value TEZ4.0-D-2  Reference: TR
TEZ4.0/D/x-x, 4VA, Dual Secondary, Cast Resin Transformer, PCB; ki_keywords: 4VA PCB Transformer Dual Secondary; ki_fp_filters: Transformer*Breve*TEZ*35x42*; Footprint: Transformer_THT:Transformer_Breve_TEZ-35x42; Datasheet: http://www.breve.pl/pdf/ANG/TEZ_ang.pdf; Description_: TEZ4.0/D/x-x, 4VA, Dual Secondary, Cast Resin Transformer, PCB
pins: 1, 5, 6, 7, 9, 10

## TEZ6.0-D-1
designator *  value TEZ6.0-D-1  Reference: TR
TEZ6.0/D/x, 6VA, Single Secondary, Cast Resin Transformer, PCB; ki_keywords: 6VA PCB Transformer Single Secondary; ki_fp_filters: Transformer*Breve*TEZ*38x45*; Footprint: Transformer_THT:Transformer_Breve_TEZ-38x45; Datasheet: http://www.breve.pl/pdf/ANG/TEZ_ang.pdf; Description_: TEZ6.0/D/x, 6VA, Single Secondary, Cast Resin Transformer, PCB
pins: 1, 5, 7, 9

## TEZ6.0-D-2
designator *  value TEZ6.0-D-2  Reference: TR
TEZ6.0/D/x-x, 6VA, Dual Secondary, Cast Resin Transformer, PCB; ki_keywords: 6VA PCB Transformer Dual Secondary; ki_fp_filters: Transformer*Breve*TEZ*38x45*; Footprint: Transformer_THT:Transformer_Breve_TEZ-38x45; Datasheet: http://www.breve.pl/pdf/ANG/TEZ_ang.pdf; Description_: TEZ6.0/D/x-x, 6VA, Dual Secondary, Cast Resin Transformer, PCB
pins: 1, 5, 6, 7, 9, 10

## TEZ10.0-D-1
designator *  value TEZ10.0-D-1  Reference: TR
TEZ10.0/D/x, 10VA, Single Secondary, Cast Resin Transformer, PCB; ki_keywords: 10VA PCB Transformer Single Secondary; ki_fp_filters: Transformer*Breve*TEZ*44x52*; Footprint: Transformer_THT:Transformer_Breve_TEZ-44x52; Datasheet: http://www.breve.pl/pdf/ANG/TEZ_ang.pdf; Description_: TEZ10.0/D/x, 10VA, Single Secondary, Cast Resin Transformer, PCB
pins: 1, 6, 8, 11

## TEZ10.0-D-2
designator *  value TEZ10.0-D-2  Reference: TR
TEZ10.0/D/x-x, 10VA, Dual Secondary, Cast Resin Transformer, PCB; ki_keywords: 10VA PCB Transformer Dual Secondary; ki_fp_filters: Transformer*Breve*TEZ*44x52*; Footprint: Transformer_THT:Transformer_Breve_TEZ-44x52; Datasheet: http://www.breve.pl/pdf/ANG/TEZ_ang.pdf; Description_: TEZ10.0/D/x-x, 10VA, Dual Secondary, Cast Resin Transformer, PCB
pins: 1, 6, 7, 8, 11, 12

## TEZ16.0-D-1
designator *  value TEZ16.0-D-1  Reference: TR
TEZ16.0/D/x, 16VA, Single Secondary, Cast Resin Transformer, PCB; ki_keywords: 16VA PCB Transformer Single Secondary; ki_fp_filters: Transformer*Breve*TEZ*47x57*; Footprint: Transformer_THT:Transformer_Breve_TEZ-47x57; Datasheet: http://www.breve.pl/pdf/ANG/TEZ_ang.pdf; Description_: TEZ16.0/D/x, 16VA, Single Secondary, Cast Resin Transformer, PCB
pins: 1, 7, 9, 13

## TEZ16.0-D-2
designator *  value TEZ16.0-D-2  Reference: TR
TEZ16.0/D/x-x, 16VA, Dual Secondary, Cast Resin Transformer, PCB; ki_keywords: 16VA PCB Transformer Dual Secondary; ki_fp_filters: Transformer*Breve*TEZ*47x57*; Footprint: Transformer_THT:Transformer_Breve_TEZ-47x57; Datasheet: http://www.breve.pl/pdf/ANG/TEZ_ang.pdf; Description_: TEZ16.0/D/x-x, 16VA, Dual Secondary, Cast Resin Transformer, PCB
pins: 1, 7, 8, 9, 13, 14

## TG110-E050N5xx
designator *  value TG110-E050N5xx  Reference: TR
Ethernet LAN 10/100 Base-Tx Transformer; ki_keywords: single port ethernet transformer; ki_fp_filters: Transformer*Ethernet*Halo*N5*; Footprint: Transformer_SMD:Transformer_Ethernet_Halo_N5_SO-16_7.11x12.7mm; Datasheet: https://www.haloelectronics.com/pdf/discrete-ultra-100baset.pdf; Description_: Ethernet LAN 10/100 Base-Tx Transformer
pins: 1 TX-, 2 C_TX, 3 TX+, 4 NC (in), 5 NC (in), 6 RX-, 7 C_RX, 8 RX+, 9 RD+, 10 C_RD, 11 RD-, 12 NC (in), 13 NC (in), 14 TD+, 15 C_TD, 16 TD-

## TG110-S050N2xx
designator *  value TG110-S050N2xx  Reference: TR
Ethernet LAN 10/100 Base-Tx Transformer; ki_keywords: single port ethernet transformer; ki_fp_filters: Transformer*Ethernet*Halo*N2*; Footprint: Transformer_SMD:Transformer_Ethernet_Halo_N2_SO-16_7.11x12.7mm; Datasheet: https://www.haloelectronics.com/pdf/discrete-ultra-100baset.pdf; Description_: Ethernet LAN 10/100 Base-Tx Transformer
pins: 1 TX-, 2 C_TX, 3 TX+, 4 NC (in), 5 NC (in), 6 RX-, 7 C_RX, 8 RX+, 9 RD+, 10 C_RD, 11 RD-, 12 NC (in), 13 NC (in), 14 TD+, 15 C_TD, 16 TD-

## TG111-MSC13LF
designator *  value TG111-MSC13LF  Reference: TR
Single Port Gigabit Ethernet Transformers; ki_fp_filters: Transformer*Ethernet*HALO*TG111*; Footprint: Transformer_SMD:Transformer_Ethernet_HALO_TG111-MSC13; Datasheet: https://www.haloelectronics.com/pdf/discrete-genesus.pdf; Description_: Single Port Gigabit Ethernet Transformers; ki_keywords: Single Port Gigabit Ethernet Transformer
pins: 1 TCT1, 2 TD1+, 3 TD1-, 4 TCT2, 5 TD2+, 6 TD2-, 7 TCT3, 8 TD3+, 9 TD3-, 10 TCT4, 11 TD4+, 12 TD4-, 13 MX4-, 14 MX4+, 15 MCT4, 16 MTX3-, 17 MTX3+, 18 MCT3, 19 MTX2-, 20 MTX2+, 21 MCT2, 22 MTX1-, 23 MTX1+, 24 MTC1

## TR1-SO8
designator *  value TR1-SO8  Reference: TR
pins: 1, 4, 5, 8

## TR60_FC
designator *  value TR60_FC  Reference: TR
pins: 1, 2, 3, 4

## TR60_IC
designator *  value TR60_IC  Reference: TR
pins: 1, 2, 3, 4

## TR60_IC2
designator *  value TR60_IC2  Reference: TR
pins: 1, 2, 3, 4

## TRANSF1
designator *  value TRANSF1  Reference: TR
pins: 1, 2, 3, 4

## TRANSF2
designator *  value TRANSF2  Reference: TR
pins: 0, 1, 2, 3, 4

## TRANSF3
designator *  value TRANSF3  Reference: TR
pins: 1, 2, 3, 4, 5, 6

## TRANSF4
designator *  value TRANSF4  Reference: TR
pins: 1, 2, 3, 4, 5

## TRANSF5
designator *  value TRANSF5  Reference: TR
pins: 1, 2, 3, 4, 5, 6

## TRANSF6
designator *  value TRANSF6  Reference: TR
pins: 1, 2, 3, 4, 5, 6, 7, 8

## TRANSF7
designator *  value TRANSF7  Reference: TR
pins: 1, 2, 3, 4, 5, 6, 7, 8, 9, 10

## TRANSF8
designator *  value TRANSF8  Reference: TR
pins: 1, 2, 3, 4, 5, 6, 7

## Triad_VPP16-310
designator *  value Triad_VPP16-310  Reference: TR
Power transformer, 2x Pri, 2x Sec, 230/115 VAC to 16/8V (0.31/0.62 A); ki_keywords: power center-tap; ki_fp_filters: Transformer*Triad*VPP16?310*; Footprint: Transformer_THT:Transformer_Triad_VPP16-310; Datasheet: https://catalog.triadmagnetics.com/Asset/VPP16-310.pdf; Description_: Power transformer, 2x Pri, 2x Sec, 230/115 VAC to 16/8V (0.31/0.62 A)
pins: 1, 3, 4, 6, 7, 9, 10, 12

## Wuerth_749013011A
designator *  value Wuerth_749013011A  Reference: TR
Ethernet LAN 10/100 Base-Tx Transformer CT, SMD; ki_keywords: single port ethernet transformer poe center tap; ki_fp_filters: Transformer*Ethernet*Wuerth*749013011A*; Footprint: Transformer_SMD:Transformer_Ethernet_Wuerth_749013011A; Datasheet: https://www.we-online.com/katalog/datasheet/749013011A.pdf; Description_: Ethernet LAN 10/100 Base-Tx Transformer CT, SMD
pins: 1 TD+, 2 C_TD, 3 TD-, 6 RD+, 7 C_RD, 8 RD-, 9 RX-, 10 C_RX, 11 RX+, 14 TX-, 15 C_TX, 16 TX+

## Wuerth_750315371
designator *  value Wuerth_750315371  Reference: TR
5V, 1A , 320 - 480kHz, 1:1.1, Center Tapped, SMD; ki_keywords: Power Center Tapped Flyback Transformer AEC-Q200; ki_fp_filters: Transformer*Wuerth*750315371*; Footprint: Transformer_SMD:Transformer_Wuerth_750315371; Datasheet: https://www.we-online.com/catalog/datasheet/750315371.pdf; Description_: 5V, 1A , 320 - 480kHz, 1:1.1, Center Tapped, SMD
pins: 1, 2, 3, 4, 5, 6

## Wuerth_750343373
designator *  value Wuerth_750343373  Reference: TR
Primary 18-60V 300kHz, Dual Secondary 12V-3A/12V-1A, Flyback Transformer, PCB; ki_keywords: PCB Flyback Transformer Dual Secondary; ki_fp_filters: Transformer*Wuerth*750343373*; Footprint: Transformer_THT:Transformer_Wuerth_750343373; Datasheet: https://katalog.we-online.com/ctm/datasheet/750343373.pdf; Description_: Primary 18-60V 300kHz, Dual Secondary 12V-3A/12V-1A, Flyback Transformer, PCB
pins: 1, 2 (in), 3, 4, 5, 6, 7, 8 (in), 9 (in), 10 (in)

## Wuerth_760871131
designator *  value Wuerth_760871131  Reference: TR
Primary 120-420V 60kHz, Dual Secondary 12V-0.5A/12V-0.5A, Single Aux 15V 0.1A, Flyback Transformer, PCB; ki_keywords: flyback dual secondary single aux; ki_fp_filters: Transformer*Wuerth*760871131*; Footprint: Transformer_THT:Transformer_Wuerth_760871131; Datasheet: https://www.we-online.com/catalog/datasheet/760871131.pdf; Description_: Primary 120-420V 60kHz, Dual Secondary 12V-0.5A/12V-0.5A, Single Aux 15V 0.1A, Flyback Transformer, PCB
pins: 1, 2 (in), 3, 4 (in), 5, 6, 7, 8, 9, 10, 11, 12, 13, 14

## Wurth_750319177
designator *  value Wurth_750319177  Reference: TR
WE-AGDT Auxiliary Gate Drive, WE-AGDT-EP7; ki_keywords: auxiliary gate drive transformer low insulation capacitance; ki_fp_filters: Transformer*Wurth*WE*AGDT*EP7*; Footprint: Transformer_SMD:Transformer_Wurth_WE-AGDT-EP7; Datasheet: https://www.we-online.com/components/products/datasheet/750319177.pdf; Description_: WE-AGDT Auxiliary Gate Drive, WE-AGDT-EP7
pins: 1, 2 NC (in), 3, 4 NC (in), 5 NC (in), 6, 7 NC (in), 8

## ZMCT103C
designator *  value ZMCT103C  Reference: TR
Qingxian Zeming Langxi Electronic ZMCT103C current transformer 1000:1 10A; ki_keywords: current sense transformer; ki_fp_filters: Transformer*ZMCT103C*; Footprint: Transformer_THT:Transformer_Zeming_ZMCT103C; Datasheet: https://5krorwxhmqqirik.leadongcdn.com/ZMCT103C+specification-aidirBqoKomRilSjpimnokp.pdf; Description_: Qingxian Zeming Langxi Electronic ZMCT103C current transformer 1000:1 10A
pins: 1, 2

## ZMPT101K
designator *  value ZMPT101K  Reference: TR
Qingxian Zeming Langxi Electronic ZMPT101K voltage transformer 1000:1000 2mA:2mA; ki_fp_filters: Transformer*ZMPT101K*; Footprint: Transformer_THT:Transformer_Zeming_ZMPT101K; Datasheet: https://5krorwxhmqqirik.leadongcdn.com/ZMPT101K+specification-aidikBqoKomRilSkopqmikp.pdf; Description_: Qingxian Zeming Langxi Electronic ZMPT101K voltage transformer 1000:1000 2mA:2mA
pins: 1, 2, 3, 4